# EAGLE library part BQ34Z100-G1 (library m_ic-power)
BQ34Z100-G1 Multi-Chemistry Impedance Track Standalone Fuel Gauge Description The bq34z100-G1 device is an Impedance Track™ fuel gauge for Li-Ion, PbA, NiMH, and NiCd batteries, and works independently of battery series-cell configurations. Batteries from 3 V to 65 V can be easily supported through an external voltage translation circuit that is controlled automatically to reduce system power consumption. The bq34z100-G1 device provides several interface options, including an I2C slave, an HDQ slave, one or four direct LEDs, and an ALERT output pin. Additionally, the bq34z100-G1 provides support for an external port expander for more than four LEDs. Features Supports Li-Ion, LiFePO4, PbA, NiMH, and NiCd Chemistries Capacity Estimation Using Patented Impedance Track™ Technology for Batteries from 3 V to 65 V Aging Compensation Self-Discharge Compensation Supports Battery Capacities up to 29 Ah with Standard Configuration Options Supports Charge and Discharge Currents up to 32 A with Standard Configuration Options External NTC Thermistor Support Supports Two-Wire I2C™ and HDQ Single-Wire Communication Interfaces with Host System SHA-1/HMAC Authentication One- or Four-LED Direct Display Control Five-LED and Higher Display Through Port Expander Reduced Power Modes (Typical Battery Pack Operating Range Conditions) Normal Operation: < 145-µA Average Sleep: < 84-µA Average Full Sleep: < 30-µA Average Package: 14-Pin TSSOP Parametrics BQ34Z100-G1 Number of Series Cells Single Cell, 2-4 Cells, >4 Cells Cell Chemistry Lead Acid, Li-Ion/Li-Polymer, LiFePO4, NiCd, NiMH Battery Capacity (Max)(mAh) 29000 Communication Interfac HDQ, I2C Battery Capacity (Min)(mAh) 100 External Capacity Indication LED Implementation Pack, System Gas Gauge Algorithm Impedance Track Cell Balancing N/A Features SHA-1 Authentication Operating Temperature Range (°C) -40 to 85 Pin/Package 14TSSOP Added 2018-08-26 Datasheet link: http://www.ti.com/lit/gpn/bq34z100-g1 Octopart Search <https://octopart.com/search?q=BQ34Z100PW*-G1>
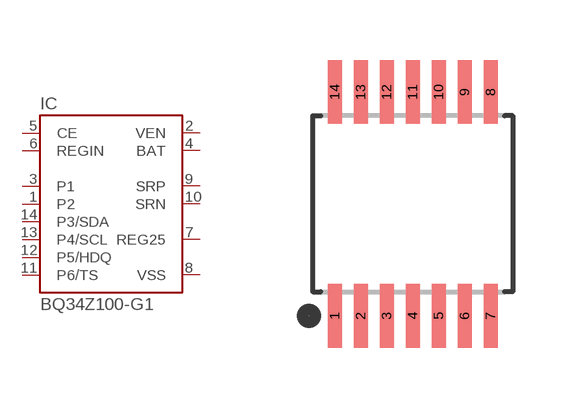
[diagram p11: symbol with the pads of R-PDSO-G14; footprint R-PDSO-G14]

Designator prefix IC

## BQ34Z100-G1PW (MANUF: TI; PARTNUM: BQ34Z100PW*-G1; VALUE: bq34z100-G1)  [R-PDSO-G14]
1  P2  pas
2  VEN  pas
3  P1  pas
4  BAT  pas
5  CE  pas
6  REGIN  pas
7  REG25  pas
8  VSS  pas
9  SRP  pas
10  SRN  pas
11  P6/TS  pas
12  P5/HDQ  pas
13  P4/SCL  pas
14  P3/SDA  pas

## Footprint R-PDSO-G14 (pad centres in mm)
R-PDSO-G14 Plastic Small Outline Package Based on TI drawing 4211284-2/G 08/15 and 4040064-3/G 02/11
smd 0.35 x 1.6: 1 -1.95,-2.8; 2 -1.3,-2.8; 3 -0.65,-2.8; 4 0,-2.8; 5 0.65,-2.8; 6 1.3,-2.8; 7 1.95,-2.8; 8 1.95,2.8; 9 1.3,2.8; 10 0.65,2.8; 11 0,2.8; 12 -0.65,2.8; 13 -1.3,2.8; 14 -1.95,2.8